# EAGLE library part SS4-10-*-X-D (library XLibrary)
CONNECTOR, RECEPTACLE, 0.4mm[.016] SOCKET STRIP ASSEMBLY, Series: SS4; No. of Row: 20; http://suddendocs.samtec.com/catalog_english/ss4.pdf
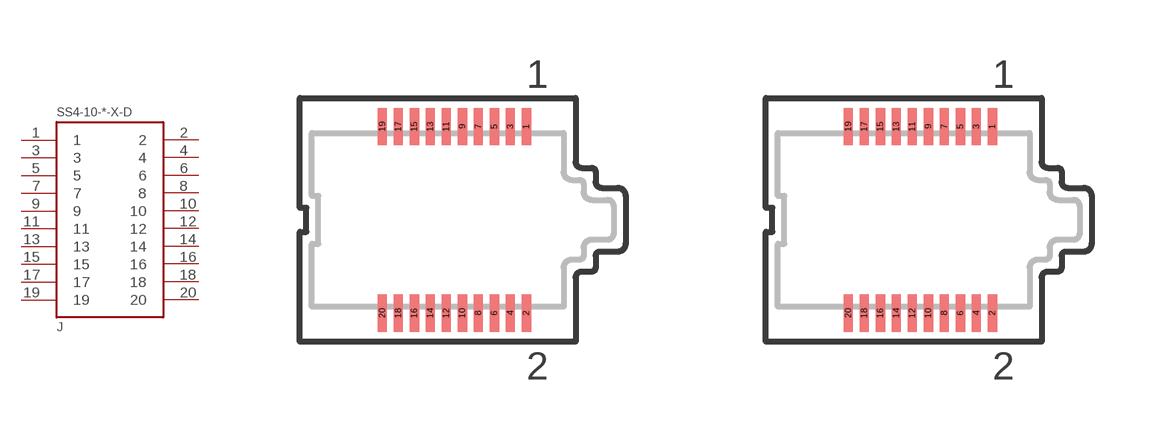
[diagram p2: symbol with the pads of SS4-10-3.50-X-D; footprints SS4-10-3.50-X-D, SS4-10-3.00-X-D]

Designator prefix J

## SS4-10-3.50-X-D (MF: Samtec; MFP: SS4-10-3.50-L-D-K-TR)  [SS4-10-3.50-X-D]
1  1
2  2
3  3
4  4
5  5
6  6
7  7
8  8
9  9
10  10
11  11
12  12
13  13
14  14
15  15
16  16
17  17
18  18
19  19
20  20

## SS4-10-3.00-X-D' (MF: Samtec; MFP: SS4-10-3.00-L-D-K-TR)  [SS4-10-3.00-X-D]
Pads as for SS4-10-3.50-X-D

## Footprint SS4-10-3.50-X-D (pad centres in mm)
0.4mm[.016] SOCKET STRIP ASSEMBLY.
smd 0.23 x 0.93: 1 1.8,2.335; 2 1.8,-2.335; 3 1.4,2.335; 4 1.4,-2.335; 5 1,2.335; 6 1,-2.335; 7 0.6,2.335; 8 0.6,-2.335; 9 0.2,2.335; 10 0.2,-2.335; 11 -0.2,2.335; 12 -0.2,-2.335; 13 -0.6,2.335; 14 -0.6,-2.335; 15 -1,2.335; 16 -1,-2.335; 17 -1.4,2.335; 18 -1.4,-2.335; 19 -1.8,2.335; 20 -1.8,-2.335

## Footprint SS4-10-3.00-X-D (pad centres in mm)
0.4mm[.016] SOCKET STRIP ASSEMBLY.
smd 0.23 x 0.93: 1 1.8,2.335; 2 1.8,-2.335; 3 1.4,2.335; 4 1.4,-2.335; 5 1,2.335; 6 1,-2.335; 7 0.6,2.335; 8 0.6,-2.335; 9 0.2,2.335; 10 0.2,-2.335; 11 -0.2,2.335; 12 -0.2,-2.335; 13 -0.6,2.335; 14 -0.6,-2.335; 15 -1,2.335; 16 -1,-2.335; 17 -1.4,2.335; 18 -1.4,-2.335; 19 -1.8,2.335; 20 -1.8,-2.335